# Altium schematic symbol library BMA180.SchLib: 1 symbol
Pins are listed as number, name and electrical type; pins without a type are passive.

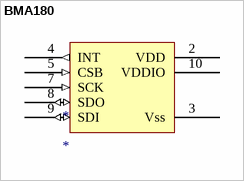
[diagram p0: symbol BMA180]

## BMA180
designator *
footprint BMA180 - Commercial
footprint BMA180 - ECESHOP
pins: 2 VDD (power), 3 Vss, 4 INT (out), 5 CSB (in), 7 SCK (in), 8 SDO (io), 9 SDI (io), 10 VDDIO